# Altium schematic symbol library Connectors.SchLib: 63 symbols
Pins are listed as number, name and electrical type; pins without a type are passive.

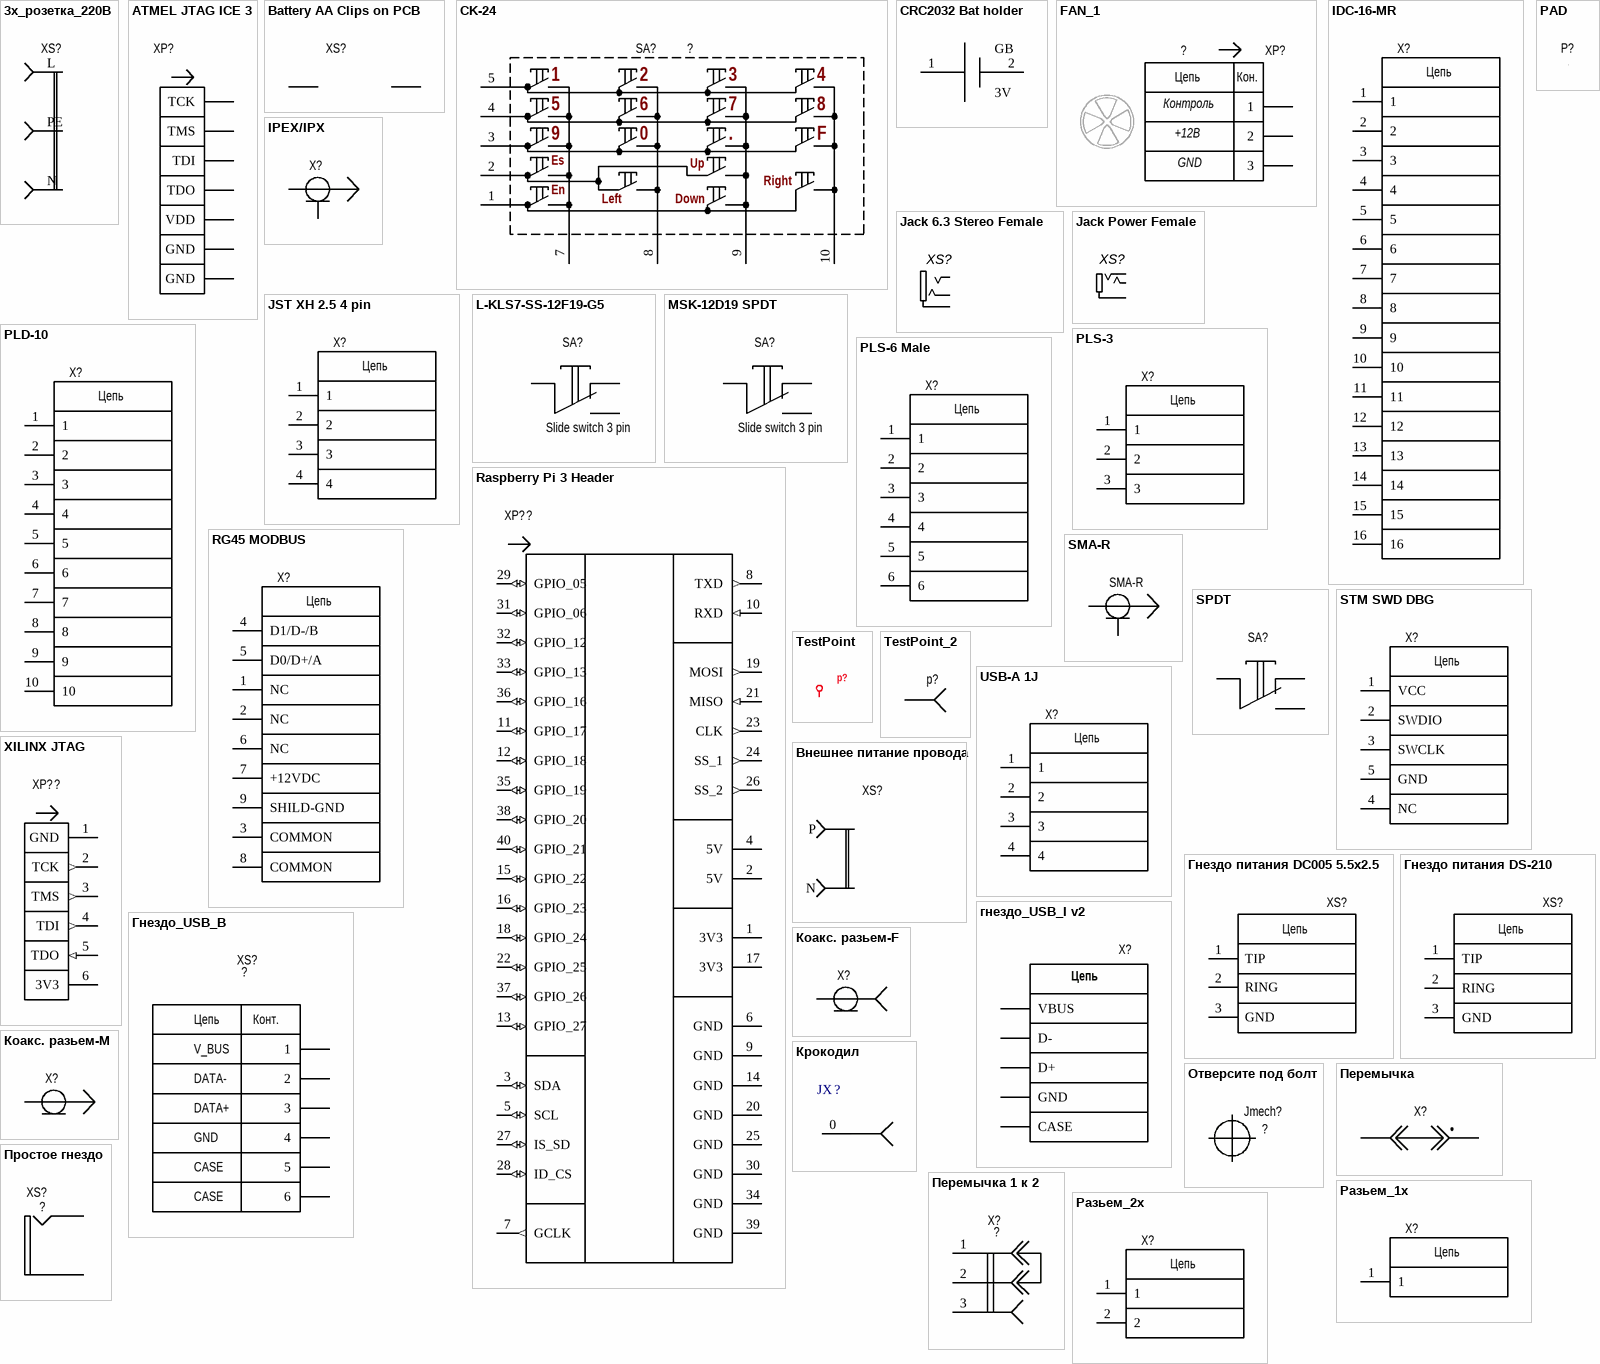
[diagram p0: symbols 3x_розетка_220В to Разьем_2x]

## 3x_розетка_220В
designator XS?
Type: ?
pins: L, N, PE

## ATMEL JTAG ICE 3
designator XP?, comment ?  (value not drawn)
Type: ?; value: ?
pins: 1 TDI, 2 GND, 5 TMS, 7 TDO, 8 VDD, 9 TCK, 10 GND

## Battery AA Clips on PCB
designator XS?, comment Топология ПП  (value not drawn)
Напаеваемые держатели для батарей АА на ПП
footprint KEYSTONE AA CLIPS
pins: 1 + "Plus", 2 - "Minus"

## CK-24
designator SA?, comment ?
Пленочная клавиатура; Type: ?; value: ?
pins: 1, 2, 3, 4, 5, 7 A, 8 B, 9 C, 10 D
text: 6; 0; .; F; Es; Up; Right; En; Left; Down

## CRC2032 Bat holder
designator GB, comment 3V
footprint CRC2032 BAT holder
pins: 1 plus, 2 minus

## FAN_1
designator XP?, comment ?
Type: ?; value: ?
pins: 1, 2, 3
text: Цепь; Кон.; Контроль; +12В; GND

## IDC-16-MR
designator X?, comment ?  (value not drawn)
Type: ?; value: ?
footprint IDC-16MR (угловой разьем на плату)
pins: 1, 2, 3, 4, 5, 6, 7, 8, 9, 10, 11, 12, 13, 14, 15, 16
text: Цепь

## IPEX/IPX
designator X?, comment X?  (value not drawn)
value: *
footprint UFL IPEX
pins: 1, 2, 3

## Jack 6.3 Stereo Female
designator XS?  (value not drawn)
footprint Гнездо Jack 6.3 стерео
pins: 1 tip, 2 ring, 3 gnd

## Jack Power Female
designator XS?  (value not drawn)
pins: 1 tip, 2 ring, 3 gnd

## JST XH 2.5 4 pin
designator X?, comment ?  (value not drawn)
Type: ?; value: ?
footprint JST HX2.5 4A (Разьем питания с защелкой)
footprint JST HX2.5 R (Разьем питания с защелкой угловой)
pins: 1, 2, 3, 4
text: Цепь

## L-KLS7-SS-12F19-G5
designator SA?, comment Slide switch 3 pin
Type: ?
footprint L-KLS7-SS-12F19-G5
pins: 1, 2, 3

## MSK-12D19 SPDT
designator SA?, comment Slide switch 3 pin
Type: ?
footprint MSK-12D19 SPDT
pins: 1, 2, 3

## PAD
designator P?  (value not drawn)
Площадка; value: *; type: *
footprint Pads 1x2mm (Contact Pads)
footprint Pads 2x3mm (Contact Pads)
footprint Pads 2x4mm (Contact Pads)
footprint Pads 2x5mm (Contact Pads)
footprint Pads 3x5mm (Contact Pads)
pins: 1

## PLD-10
designator X?, comment ?  (value not drawn)
Type: ?; value: ?
footprint PLD-10
pins: 1, 2, 3, 4, 5, 6, 7, 8, 9, 10
text: Цепь

## PLS-3
designator X?, comment ?  (value not drawn)
Type: ?; value: ?
footprint PLS-3
pins: 1, 2, 3
text: Цепь

## PLS-6 Male
designator X?, comment ?  (value not drawn)
Type: ?; value: ?
footprint PLS-6
pins: 1, 2, 3, 4, 5, 6
text: Цепь

## Raspberry Pi 3 Header
designator XP?, comment ?
Type: ?; value: ?
footprint RPI3-HEADER
footprint PBD-40 2.54 RPI (For rasspberry. Miror)
pins: 1 3V3 (power), 2 5V (power), 3 SDA (io), 4 5V (power), 5 SCL (io), 6 GND (power), 7 GCLK (out), 8 TXD (out), 9 GND (power), 10 RXD (in), 11 GPIO_17 (io), 12 GPIO_18 (io), 13 GPIO_27 (io), 14 GND (power), 15 GPIO_22 (io), 16 GPIO_23 (io), 17 3V3 (power), 18 GPIO_24 (io), 19 MOSI (out), 20 GND (power), 21 MISO (in), 22 GPIO_25 (io), 23 CLK (out), 24 SS_1 (out), 25 GND (power), 26 SS_2 (out), 27 IS_SD (io), 28 ID_CS (io), 29 GPIO_05 (io), 30 GND (power), 31 GPIO_06 (io), 32 GPIO_12 (io), 33 GPIO_13 (io), 34 GND (power), 35 GPIO_19 (io), 36 GPIO_16 (io), 37 GPIO_26 (io), 38 GPIO_20 (io), 39 GND (power), 40 GPIO_21 (io)

## RG45 MODBUS
designator X?, comment ?  (value not drawn)
RG45-MODBUS; Type: ?; value: ?
footprint RG45 (Розетка на плату)
pins: 1 NC, 2 NC, 3 COMMON, 4 D1/D-/B, 5 D0/D+/A, 6 NC, 7 +12VDC, 8 COMMON, 9 SHILD-GND
text: Цепь

## SMA-R
designator SMA-R, comment X?  (value not drawn)
value: *
footprint SMA-R (Для монтажа на ПП. Вертикальный)
pins: 1, 2

## SPDT
designator SA?
Type: ?
pins: 1, 2, 3

## STM SWD DBG
designator X?, comment ?  (value not drawn)
Type: ?; value: ?
footprint PLS-5
pins: 1 VCC, 2 SWDIO, 3 SWCLK, 4 NC, 5 GND
text: Цепь

## TestPoint
designator p?, comment ?  (value not drawn)
Type: ?; value: ?
footprint TestPoint_3 (PLB)
pins: 1

## TestPoint_2
designator p?, comment ?  (value not drawn)
Type: ?; value: ?
pins: 1

## USB-A 1J
designator X?, comment ?  (value not drawn)
Type: ?; value: ?
pins: 1, 2, 3, 4
text: Цепь

## XILINX JTAG
designator XP?, comment ?
Type: ?; value: ?
pins: 1 GND (power), 2 TCK (out), 3 TMS (out), 4 TDI (out), 5 TDO (in), 6 3V3 (power)

## Внешнее питание провода
designator XS?, comment Топология ПП  (value not drawn)
Дырки для питания
footprint 2 pin minivia
pins: 1 P, 2 N

## Гнездо питания DC005 5.5x2.5
designator XS?, comment Гнездо питания DS-210  (value not drawn)
2.1x5.5мм
footprint DS-210
pins: 1 TIP, 2 RING, 3 GND
text: Цепь

## Гнездо питания DS-210
designator XS?  (value not drawn)
2.1x5.5мм
footprint DS-210
pins: 1 TIP, 2 RING, 3 GND
text: Цепь

## Гнездо_USB_B
designator XS?, comment ?
Type: ?; value: ?
pins: CASE 5, CASE 6, D+ 3, D- 2, GND 4, VCC 1
text: Цепь; Конт.; V_BUS; DATA-; DATA+

## гнездо_USB_I v2
designator X?  (value not drawn)
value: *; type: *
footprint USB_A_01
pins: CASE, D+, D-, GND, VCC VBUS
text: Цепь

## Коакс. разьем-F
designator X?  (value not drawn)
value: *
pins: 1, 2

## Коакс. разьем-M
designator X?  (value not drawn)
value: *
pins: 1, 2

## Крокодил
designator JX, comment ?
площадка для крокадила с краю платы; Type: ?; Value: ?
pins: 0 1

## Отверсите под болт
designator Jmech?, comment ?
Type: ?; Value: ?

## Перемычка
designator X?, comment ?  (value not drawn)
Type: ?; Value: ?
pins: 1, 2

## Перемычка 1 к 2
designator X?, comment ?
Type: ?; Value: ?
pins: 1, 2, 3

## Простое гнездо
designator XS?, comment ?
Type: ?; value: ?
pins: 1, 2

## Разьем_1x
designator X?, comment ?  (value not drawn)
Type: ?; value: ?
pins: 1
text: Цепь

## Разьем_2x
designator X?, comment ?  (value not drawn)
Type: ?; value: ?
pins: 1, 2
text: Цепь

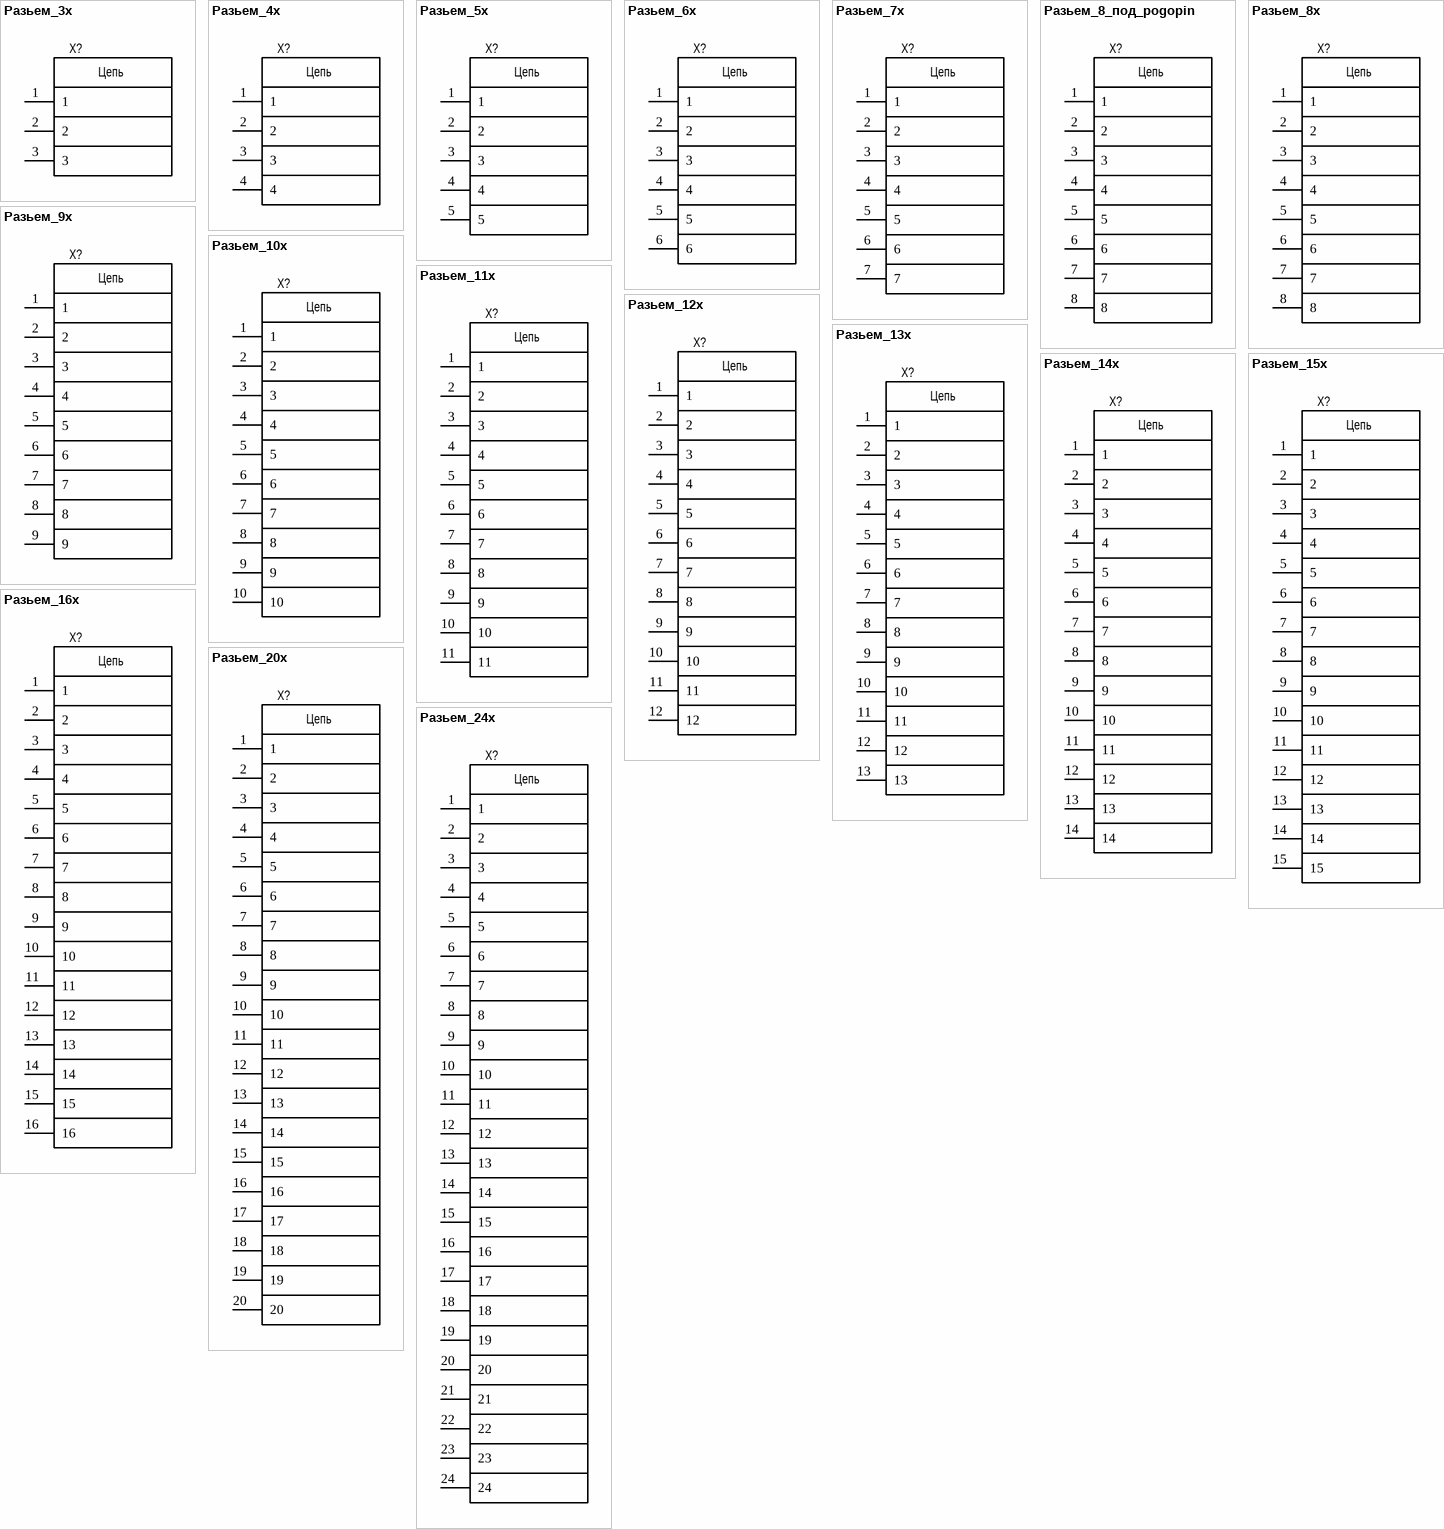
[diagram p1: symbols Разьем_3x to Разьем_24x]

## Разьем_3x
designator X?, comment ?  (value not drawn)
Type: ?; value: ?
pins: 1, 2, 3
text: Цепь

## Разьем_4x
designator X?, comment ?  (value not drawn)
Type: ?; value: ?
pins: 1, 2, 3, 4
text: Цепь

## Разьем_5x
designator X?, comment ?  (value not drawn)
Type: ?; value: ?
pins: 1, 2, 3, 4, 5
text: Цепь

## Разьем_6x
designator X?, comment ?  (value not drawn)
Type: ?; value: ?
pins: 1, 2, 3, 4, 5, 6
text: Цепь

## Разьем_7x
designator X?, comment ?  (value not drawn)
Type: ?; value: ?
pins: 1, 2, 3, 4, 5, 6, 7
text: Цепь

## Разьем_8_под_pogopin
designator X?, comment ?  (value not drawn)
Type: ?; value: ?
footprint PBD-08
pins: 1, 2, 3, 4, 5, 6, 7, 8
text: Цепь

## Разьем_8x
designator X?, comment ?  (value not drawn)
Type: ?; value: ?
pins: 1, 2, 3, 4, 5, 6, 7, 8
text: Цепь

## Разьем_9x
designator X?, comment ?  (value not drawn)
Type: ?; value: ?
pins: 1, 2, 3, 4, 5, 6, 7, 8, 9
text: Цепь

## Разьем_10x
designator X?, comment ?  (value not drawn)
Type: ?; value: ?
pins: 1, 2, 3, 4, 5, 6, 7, 8, 9, 10
text: Цепь

## Разьем_11x
designator X?, comment ?  (value not drawn)
Type: ?; value: ?
pins: 1, 2, 3, 4, 5, 6, 7, 8, 9, 10, 11
text: Цепь

## Разьем_12x
designator X?, comment ?  (value not drawn)
Type: ?; value: ?
pins: 1, 2, 3, 4, 5, 6, 7, 8, 9, 10, 11, 12
text: Цепь

## Разьем_13x
designator X?, comment ?  (value not drawn)
Type: ?; value: ?
pins: 1, 2, 3, 4, 5, 6, 7, 8, 9, 10, 11, 12, 13
text: Цепь

## Разьем_14x
designator X?, comment ?  (value not drawn)
Type: ?; value: ?
pins: 1, 2, 3, 4, 5, 6, 7, 8, 9, 10, 11, 12, 13, 14
text: Цепь

## Разьем_15x
designator X?, comment ?  (value not drawn)
Type: ?; value: ?
pins: 1, 2, 3, 4, 5, 6, 7, 8, 9, 10, 11, 12, 13, 14, 15
text: Цепь

## Разьем_16x
designator X?, comment ?  (value not drawn)
Type: ?; value: ?
pins: 1, 2, 3, 4, 5, 6, 7, 8, 9, 10, 11, 12, 13, 14, 15, 16
text: Цепь

## Разьем_20x
designator X?, comment ?  (value not drawn)
Type: ?; value: ?
pins: 1, 2, 3, 4, 5, 6, 7, 8, 9, 10, 11, 12, 13, 14, 15, 16, 17, 18, 19, 20
text: Цепь

## Разьем_24x
designator X?, comment ?  (value not drawn)
Type: ?; value: ?
pins: 1, 2, 3, 4, 5, 6, 7, 8, 9, 10, 11, 12, 13, 14, 15, 16, 17, 18, 19, 20, 21, 22, 23, 24
text: Цепь

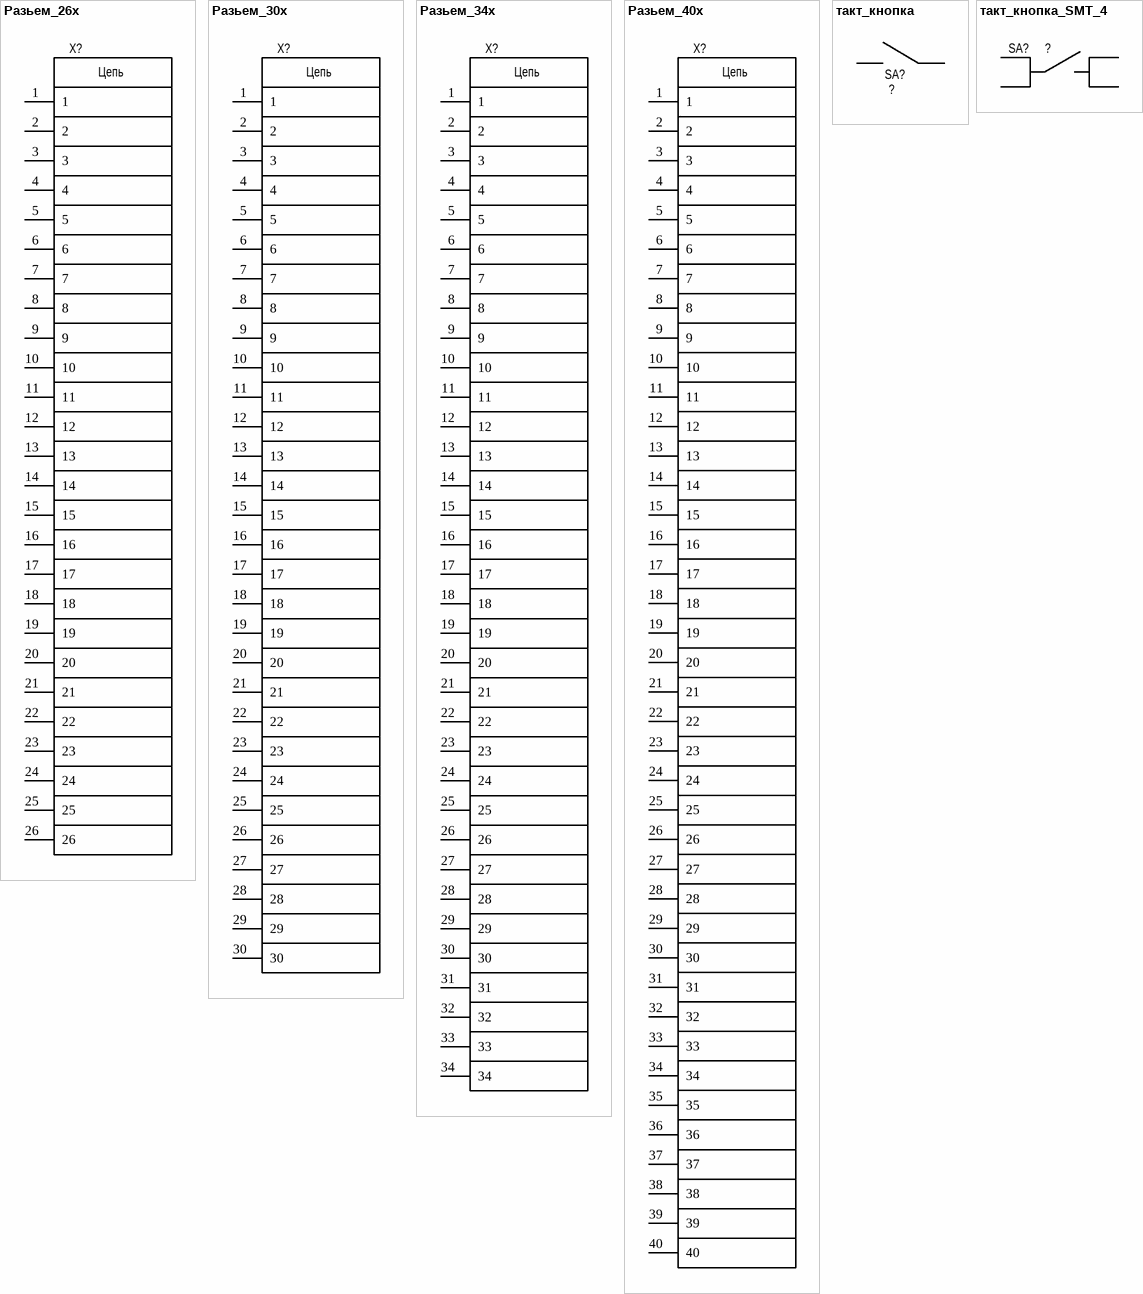
[diagram p2: symbols Разьем_26x to такт_кнопка_SMT_4]

## Разьем_26x
designator X?, comment ?  (value not drawn)
Type: ?; value: ?
pins: 1, 2, 3, 4, 5, 6, 7, 8, 9, 10, 11, 12, 13, 14, 15, 16, 17, 18, 19, 20, 21, 22, 23, 24, 25, 26
text: Цепь

## Разьем_30x
designator X?, comment ?  (value not drawn)
Type: ?; value: ?
pins: 1, 2, 3, 4, 5, 6, 7, 8, 9, 10, 11, 12, 13, 14, 15, 16, 17, 18, 19, 20, 21, 22, 23, 24, 25, 26, 27, 28, 29, 30
text: Цепь

## Разьем_34x
designator X?, comment ?  (value not drawn)
Type: ?; value: ?
pins: 1, 2, 3, 4, 5, 6, 7, 8, 9, 10, 11, 12, 13, 14, 15, 16, 17, 18, 19, 20, 21, 22, 23, 24, 25, 26, 27, 28, 29, 30, 31, 32, 33, 34
text: Цепь

## Разьем_40x
designator X?, comment ?  (value not drawn)
Type: ?; value: ?
pins: 1, 2, 3, 4, 5, 6, 7, 8, 9, 10, 11, 12, 13, 14, 15, 16, 17, 18, 19, 20, 21, 22, 23, 24, 25, 26, 27, 28, 29, 30, 31, 32, 33, 34, 35, 36, 37, 38, 39, 40
text: Цепь

## такт_кнопка
designator SA?, comment ?
Type: ?; value: ?
pins: 1, 2

## такт_кнопка_SMT_4
designator SA?, comment ?
Type: ?; value: ?
pins: 1, 2, 3, 4